# Altium schematic symbol library VT.SchLib: 9 symbols
Pins are listed as number, name and electrical type; pins without a type are passive.

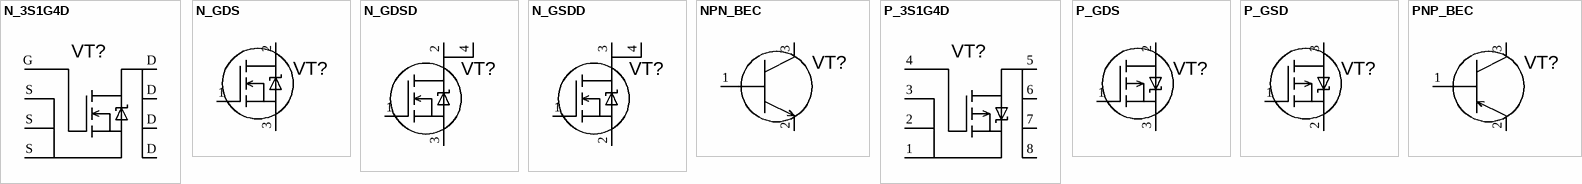
[diagram p0: symbols N_3S1G4D to PNP_BEC]

## N_3S1G4D
designator VT?
pins: D d, D d, D d, D d, G g, S s, S s, S s

## N_GDS
designator VT?
pins: 1 g, 2 d, 3 s

## N_GDSD
designator VT?
pins: 1 g, 2 d, 3 s, 4 s

## N_GSDD
designator VT?
pins: 1 g, 2 s, 3 d, 4 s

## NPN_BEC
designator VT?
ComponentLink1Description: link; ComponentLink1URL: *
footprint TO-92-CBE (TO, Flat Index; 3 In-Line, Axial Leads; Body Dia. 4.6mm; Leads 0.41 x 0.39 mm (max))
pins: 1, 2, 3

## P_3S1G4D
designator VT?
pins: 1 s, 2 s, 3 s, 4 g, 5 d, 6 d, 7 d, 8 d

## P_GDS
designator VT?
pins: 1 g, 2 d, 3 s

## P_GSD
designator VT?
pins: 1 g, 2 s, 3 d

## PNP_BEC
designator VT?
pins: 1 b, 2 e, 3 c